# EAGLE library part AD5621AKSZ-500RL7 (library ic-power)
2.7 V to 5.5 V, <100 ìA, 8-/10-/12-Bit nanoDAC, SPI Interface in SC70 Package
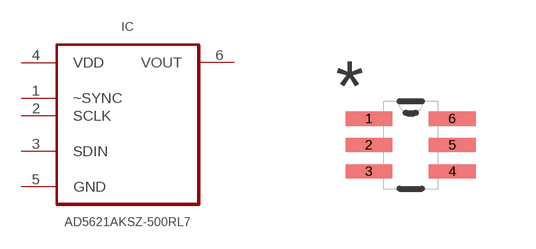
[diagram p5: symbol with the pads of SOT65P210X110-6N; footprint SOT65P210X110-6N]

Designator prefix IC

## AD5621AKSZ-500RL7 (MPN: AD5621AKSZ-500RL7; OC_FARNELL: 1117911; OC_NEWARK: 19M0821; PACKAGE: SC70-6; SUPPLIER: Analog Devices)  [SOT65P210X110-6N]
1  ~SYNC  in
2  SCLK  in
3  SDIN  in
4  VDD  pwr
5  GND  pas
6  VOUT  out

## Footprint SOT65P210X110-6N (pad centres in mm)
smd 1.168 x 0.356: 1 -1.041,0.66; 2 -1.041,0; 3 -1.041,-0.66; 4 1.041,-0.66; 5 1.041,0; 6 1.041,0.66